# Altium footprint library Lower.PcbLib: 3 footprints
Each footprint in its own frame and in the unit in brackets; x right, y up, seen from the top. Pads: shape width x height; smd on the part's side, far side on the other; paste and mask are expansions set on the pad; w line width, h text height; cw(c..) or ccw(c..) is an arc to the next point about the centre after c.
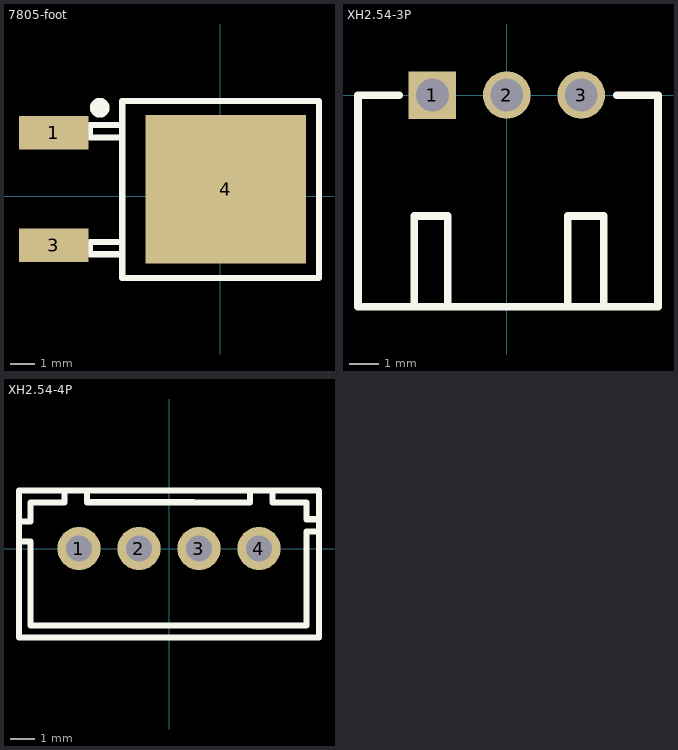
[diagram p0: the footprints below, top view; thin cyan lines are the x and y axes]

## 7805-foot [mm]
pads (3):
  rect 2.8x1.35 smd: 1(-6.728,2.563) 3(-6.728,-1.987)
  rect 6.5x6 smd: 4(0.222,0.271)
Top Overlay:
  lines w0.254: -3.963,2.371 -5.263,2.371 -5.263,2.871 -3.963,2.871 ; -3.959,-2.352 -5.259,-2.352 -5.259,-1.851 -3.959,-1.851 ; -3.963,-3.302 3.987,-3.302 3.987,3.844 -3.963,3.844 -3.963,-3.302
  lines w0.4: -4.865,3.37 cw(c-4.864,3.57) -4.863,3.37
Mechanical 15:
  lines w0.003: -2.032,0.523 -1.981,0.574

## XH2.54-3P [mm]
pads (3):
  rect 1.6x1.6 hole 1.1: 1(-2.5,0)
  round 1.6 hole 1.1: 2(0,0) 3(2.5,0)
Top Overlay:
  lines w0.254: -3.616,0 -5,0 -5,-7.112 5,-7.112 ; -3.108,-7.112 -3.108,-4.064 -1.978,-4.064 -1.978,-7.112 ; 2.045,-7.112 2.045,-4.064 3.251,-4.064 3.251,-7.112 ; 3.696,0 5.08,0 5.08,-7.112

## XH2.54-4P [mm]
pads (4):
  round 1.8 hole 1.1: 1(-3.75,0) 2(-1.25,0) 3(1.25,0) 4(3.75,0)
Top Overlay:
  lines w0.254: -6.25,1.13 -5.775,1.13 -5.775,1.925 -4.361,1.925 -4.361,2.375 ; -6.25,2.4 -6.25,-3.7 6.25,-3.7 6.25,2.4 ; -6.25,2.41 6.24,2.41 ; -6.24,0.3 -5.775,0.3 -5.775,-3.2 5.726,-3.2 5.726,0.711 6.226,0.711 ; -3.424,2.376 -3.424,1.926 1.019,1.926 0.976,1.925 ; 1.019,1.925 3.375,1.925 3.375,2.375 ; 4.31,1.926 4.31,2.374 ; 4.314,1.925 5.726,1.925 5.726,1.219 6.226,1.219